# EAGLE library part MIC4606-1 (library MIC4606)
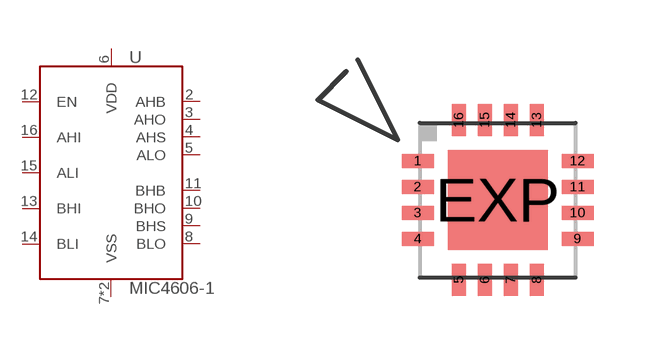
[diagram p0: symbol with the pads of QFN16-4X4; footprint QFN16-4X4]

Designator prefix U

## MIC4606-1YML (MARK: 4606-1YML; MF: Microchip Tech; MPN: MIC4606-1YML)  [QFN16-4X4]
2  AHB
3  AHO
4  AHS
5  ALO
6  VDD
7  VSS
8  BLO
9  BHS
10  BHO
11  BHB
12  EN
13  BHI
14  BLI
15  ALI
16  AHI
EXP  VSS

## Footprint QFN16-4X4 (pad centres in mm)
16-Lead Plastic Quad Flat, No Lead Package (ML) - 4x4x0.9mm Body [QFN] Source: http://ww1.microchip.com/downloads/en/DeviceDoc/41203E.pdf
smd 0.8 x 0.35: 1 -2,0.975; 2 -2,0.325; 3 -2,-0.325; 4 -2,-0.975; 9 2,-0.975; 10 2,-0.325; 11 2,0.325; 12 2,0.975
smd 0.35 x 0.8: 5 -0.975,-2; 6 -0.325,-2; 7 0.325,-2; 8 0.975,-2; 13 0.975,2; 14 0.325,2; 15 -0.325,2; 16 -0.975,2
smd 2.5 x 2.5: EXP 0,0